# Altium footprint library Mini-Circuits.PcbLib: 16 footprints
Each footprint in its own frame and in the unit in brackets; x right, y up, seen from the top. Pads: shape width x height; smd on the part's side, far side on the other; paste and mask are expansions set on the pad; w line width, h text height; cw(c..) or ccw(c..) is an arc to the next point about the centre after c.
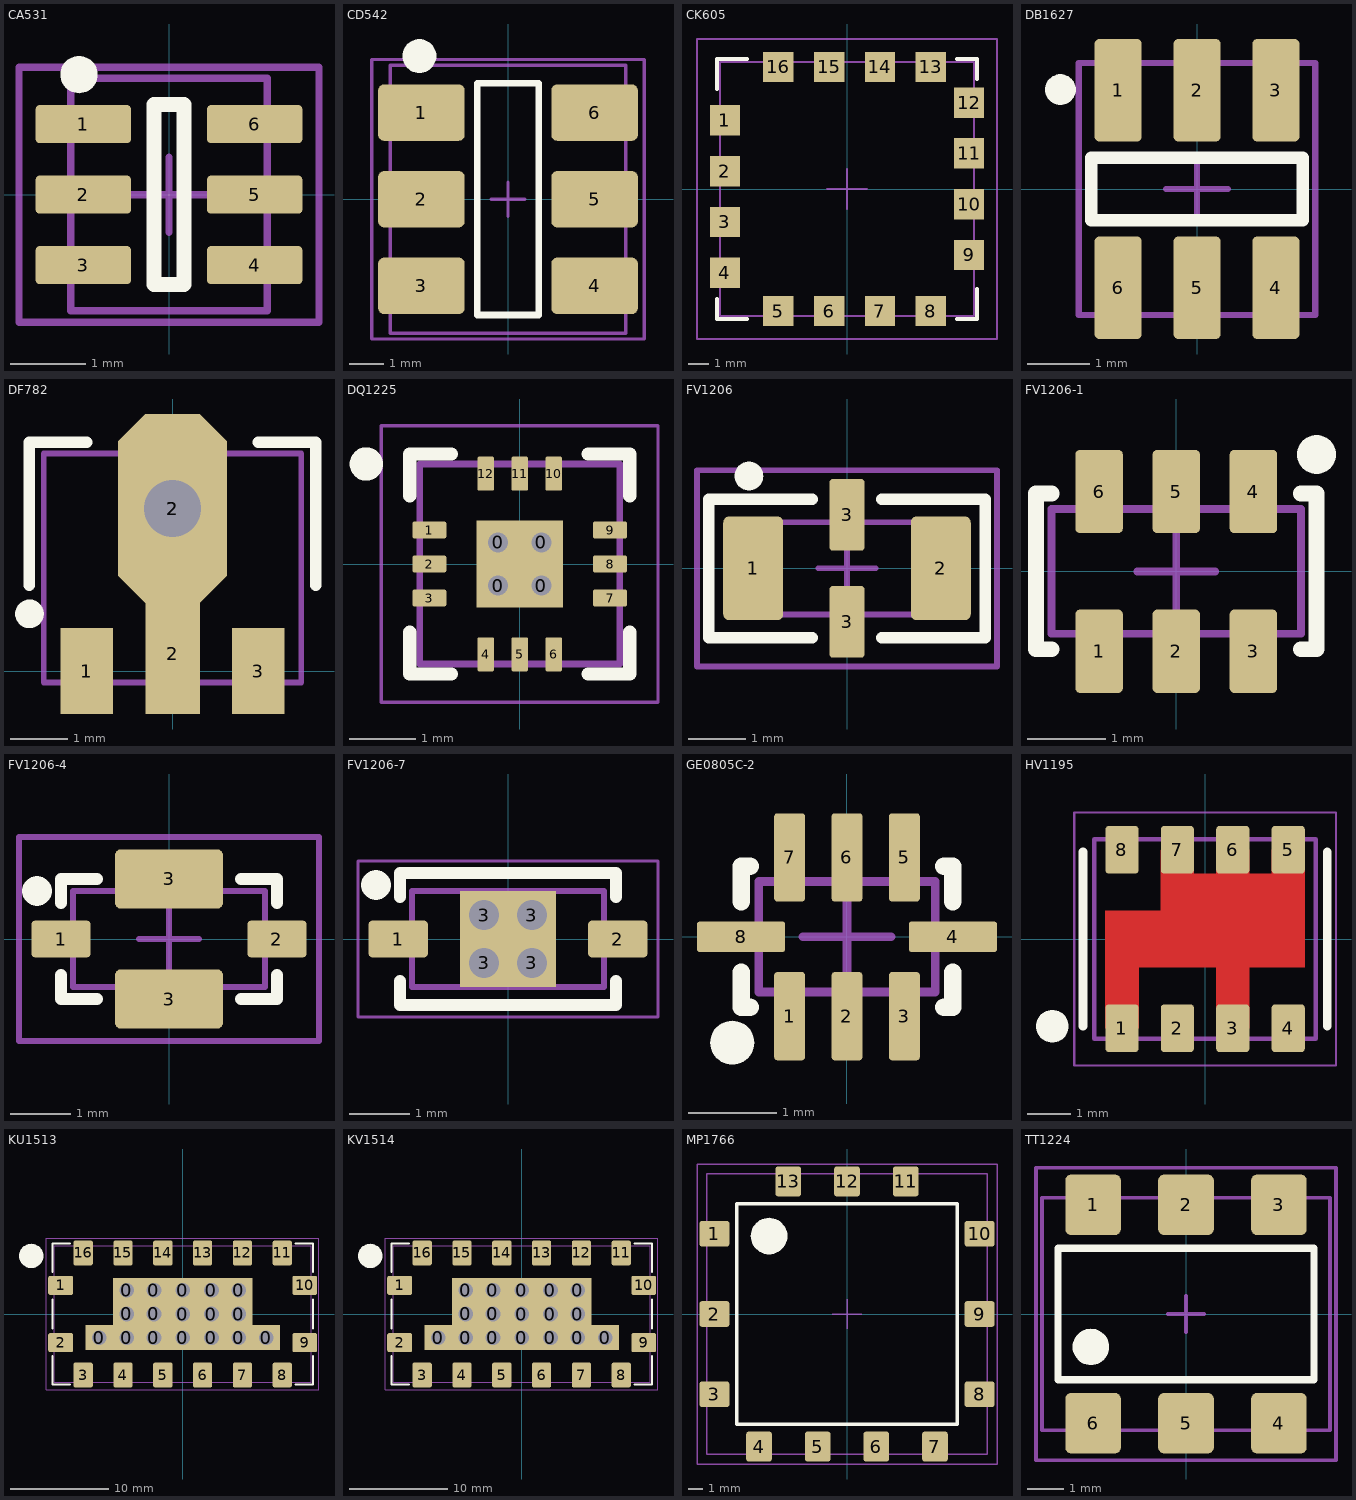
[diagram p0: the footprints below, top view; thin cyan lines are the x and y axes]

## CA531 [mil]
pads (7):
  rrect20% 50x20 smd: 1(-45,37) 2(-45,0) 3(-45,-37) 4(45,-37) 5(45,0) 6(45,37)
  round 19.68 on Top Overlay: ""(-47.24,62.99)
Top Overlay:
  lines w7.87: -7.87,-47.24 -7.87,47.24 7.87,47.24 7.87,-47.24 -7.87,-47.24
Mechanical 1:
  lines w3.94: -51.57,-61.02 -51.57,61.02 51.57,61.02 51.57,-61.02 -51.57,-61.02
Mechanical 15:
  lines w3.94: -19.68,0 19.68,0 ; 0,-19.68 0,19.68 ; -78.74,-66.93 78.74,-66.93 78.74,66.93 -78.74,66.93 -78.74,-66.93
3D body "Mini-Circuits_CA531.STEP": height 62.99, standoff 0, extent -51.57,-61.02 51.57,61.02

## CD542 [mm]
pads (7):
  rrect20% 2.54x1.65 smd: 1(-2.54,2.54) 2(-2.54,0) 3(-2.54,-2.54) 4(2.54,-2.54) 5(2.54,0) 6(2.54,2.54)
  round 1 on Top Overlay: ""(-2.6,4.2)
Top Overlay:
  lines w0.2: -0.9,-3.4 0.9,-3.4 0.9,3.4 -0.9,3.4 -0.9,-3.4
Mechanical 1:
  lines w0.1: -3.455,-3.935 3.455,-3.935 3.455,3.935 -3.455,3.935 -3.455,-3.935
Mechanical 15:
  lines w0.1: -0.5,0 0.5,0 ; 0,-0.5 0,0.5 ; -4,-4.1 4,-4.1 4,4.1 -4,4.1 -4,-4.1
3D body "Mini-Circuits_CD542.STEP": height 2.84, standoff 0, extent -3.455,-3.935 3.455,3.935

## CK605 [mm]
pads (16):
  rect 1.52x1.52 smd: 1(-6.1,3.43) 2(-6.1,0.89) 3(-6.1,-1.65) 4(-6.1,-4.19) 5(-3.43,-6.1) 6(-0.89,-6.1) 7(1.65,-6.1) 8(4.19,-6.1) 9(6.1,-3.3) 10(6.1,-0.76) 11(6.1,1.78) 12(6.1,4.32) 13(4.19,6.1) 14(1.65,6.1) 15(-0.89,6.1) 16(-3.43,6.1)
Top Overlay:
  lines w0.2: -6.5,-5.5 -6.5,-6.5 -5,-6.5 ; -6.5,5 -6.5,6.5 -5,6.5 ; 5.5,-6.5 6.5,-6.5 6.5,-5 ; 5.5,6.5 6.5,6.5 6.5,5.5
Mechanical 1:
  lines w0.1: -6.35,-6.35 -6.35,6.35 6.35,6.35 6.35,-6.35 -6.35,-6.35
Mechanical 15:
  lines w0.1: -1,0 1,0 ; 0,-1 0,1 ; -7.5,-7.5 -7.5,7.5 7.5,7.5 7.5,-7.5 -7.5,-7.5
3D body "Mini-Circuits_CK605.STEP": height 4.57, standoff 0, extent -6.35,-6.35 6.35,6.35

## DB1627 [mm]
pads (7):
  rrect20% 0.76x1.65 smd: 1(-1.27,1.59) 2(0,1.59) 3(1.27,1.59) 4(1.27,-1.59) 5(0,-1.59) 6(-1.27,-1.59)
  round 0.5 on Top Overlay: ""(-2.2,1.6)
Top Overlay:
  lines w0.2: -1.7,-0.5 -1.7,0.5 1.7,0.5 1.7,-0.5 -1.7,-0.5
Mechanical 1:
  lines w0.1: -1.905,-2.03 -1.905,2.03 1.905,2.03 1.905,-2.03 -1.905,-2.03
Mechanical 15:
  lines w0.1: -0.5,0 0.5,0 ; 0,-0.5 0,0.5

## DF782 [mil]
pads (5):
  rect 36x59 smd: 1(-59,0) 3(59,0)
  rect 37.5x82.68 smd: 2(0,11.84)
  oct 75x130 smd: 2(0,111.82)
  round 39.37 hole 39.37: 2(0,111.82)
Top Overlay:
  circle w9.84: c-98.43,39.37 r4.92
  lines w7.87: -98.43,59.06 -98.43,157.48 -59.06,157.48 ; 59.06,157.48 98.43,157.48 98.43,59.06
Mechanical 1:
  lines w3.94: -88.58,-7.87 -88.58,149.6 88.58,149.6 88.58,-7.87 -88.58,-7.87
3D body "SOT-89-3.step": height 59.84, standoff 0, extent -88.58,-7.87 88.58,149.6

## DQ1225 [mm] "QFN, 12-Leads, Body 3.00x3.00mm, Pitch 0.50mm, Thermal Pad 1.45x1.45mm, IPC Medium Density"
height 0.89
pads (16):
  rect 0.65x0.65 hole 0.3: 0(-0.325,-0.325) 0(-0.325,0.325) 0(0.325,-0.325) 0(0.325,0.325)
  rrect20% 0.51x0.25 smd: 1(-1.355,0.51) 2(-1.355,0) 3(-1.355,-0.51) 7(1.355,-0.51) 8(1.355,0) 9(1.355,0.51)
  rrect20% 0.25x0.51 smd: 4(-0.51,-1.355) 5(0,-1.355) 6(0.51,-1.355) 10(0.51,1.355) 11(0,1.355) 12(-0.51,1.355)
Top Overlay:
  circle w0.25: c-2.3,1.5 r0.125
  lines w0.2: -1.65,-1.025 -1.65,-1.65 -1.025,-1.65 ; -1.65,1.025 -1.65,1.65 -1.025,1.65 ; 1.025,-1.65 1.65,-1.65 1.65,-1.025 ; 1.025,1.65 1.65,1.65 1.65,1.025
Mechanical 13:
  lines w0.1: -1.5,-1.5 -1.5,1.5 1.5,1.5 1.5,-1.5 -1.5,-1.5
Mechanical 15:
  lines w0.05: -2.075,-2.075 -2.075,2.075 2.075,2.075 2.075,-2.075 -2.075,-2.075
  lines w0.1: -0.5,0 0.5,0 ; 0,-0.5 0,0.5
3D body "Mini-Circuits_DQ1225.STEP": height 0.35, standoff -0.01, extent -1.501,-1.501 1.501,1.501

## FV1206 [mm]
pads (5):
  rrect20% 1.04x1.8 smd: 1(-1.625,0) 2(1.625,0)
  rrect20% 0.61x1.245 smd: 3(0,-0.927) 3(0,0.927)
  round 0.5 on Top Overlay: ""(-1.7,1.6)
Top Overlay:
  lines w0.2: -0.6,-1.2 -2.4,-1.2 -2.4,1.2 -0.6,1.2 ; 0.6,-1.2 2.4,-1.2 2.4,1.2 0.6,1.2
Mechanical 1:
  lines w0.1: -1.6,-0.8 1.6,-0.8 1.6,0.8 -1.6,0.8 -1.6,-0.8
Mechanical 15:
  lines w0.1: -0.5,0 0.5,0 ; 0,-0.5 0,0.5 ; -2.6,-1.7 2.6,-1.7 2.6,1.7 -2.6,1.7 -2.6,-1.7
3D body "Filter_Mini-Circuits_FV1206.step": height 0.94, standoff 0, extent -1.6,-0.8 1.6,0.8

## FV1206-1 [mm]
pads (7):
  rrect20% 0.61x1.07 smd: 1(-0.99,-1.025) 2(0,-1.025) 3(0.99,-1.025) 4(0.99,1.025) 5(0,1.025) 6(-0.99,1.025)
  round 0.5 on Top Overlay: ""(1.8,1.5)
Top Overlay:
  lines w0.2: -1.6,-1 -1.8,-1 -1.8,1 -1.6,1 ; 1.6,-1 1.8,-1 1.8,1 1.6,1
Mechanical 1:
  lines w0.1: -1.6,-0.8 1.6,-0.8 1.6,0.8 -1.6,0.8 -1.6,-0.8
Mechanical 15:
  lines w0.1: -0.5,0 0.5,0 ; 0,-0.5 0,0.5
3D body "Filter_Mini-Circuits_FV1206-1.step": height 0.89, standoff 0, extent -1.6,-0.8 1.6,0.8

## FV1206-4 [mm]
pads (5):
  rrect20% 0.99x0.61 smd: 1(-1.8,0) 2(1.8,0)
  rrect20% 1.8x0.99 smd: 3(0,-1) 3(0,1)
  round 0.5 on Top Overlay: ""(-2.2,0.8)
Top Overlay:
  lines w0.2: -1.8,-0.6 -1.8,-1 -1.2,-1 ; -1.8,0.6 -1.8,1 -1.2,1 ; 1.2,-1 1.8,-1 1.8,-0.6 ; 1.2,1 1.8,1 1.8,0.6
Mechanical 1:
  lines w0.1: -1.6,-0.8 1.6,-0.8 1.6,0.8 -1.6,0.8 -1.6,-0.8
Mechanical 15:
  lines w0.1: -0.5,0 0.5,0 ; 0,-0.5 0,0.5 ; -2.5,-1.7 -2.5,1.7 2.5,1.7 2.5,-1.7 -2.5,-1.7
3D body "Filter_Mini-Circuits_FV1206-4.step": height 0.94, standoff 0, extent -1.6,-0.8 1.6,0.8

## FV1206-7 [mm]
pads (7):
  rrect20% 0.99x0.61 smd: 1(-1.83,0) 2(1.83,0)
  rect 0.8x0.8 hole 0.5: 3(-0.4,-0.4) 3(-0.4,0.4) 3(0.4,-0.4) 3(0.4,0.4)
  round 0.5 on Top Overlay: ""(-2.2,0.9)
Top Overlay:
  lines w0.2: -1.8,-0.7 -1.8,-1.1 1.8,-1.1 1.8,-0.7 ; -1.8,0.7 -1.8,1.1 1.8,1.1 1.8,0.7
Mechanical 1:
  lines w0.1: -1.6,-0.8 1.6,-0.8 1.6,0.8 -1.6,0.8 -1.6,-0.8
Mechanical 15:
  lines w0.05: -2.5,-1.3 2.5,-1.3 2.5,1.3 -2.5,1.3 -2.5,-1.3
  lines w0.1: -0.5,0 0.5,0 ; 0,-0.5 0,0.5
3D body "Filter_Mini-Circuits_FV1206-7.step": height 1.3, standoff 0, extent -1.6,-0.8 1.6,0.8

## GE0805C-2 [mm]
pads (9):
  rrect20% 0.35x1 smd: 1(-0.65,-0.9) 2(0,-0.9) 3(0.65,-0.9) 5(0.65,0.9) 6(0,0.9) 7(-0.65,0.9)
  rrect20% 1x0.35 smd: 4(1.2,0) 8(-1.2,0)
  round 0.5 on Top Overlay: ""(-1.3,-1.2)
Top Overlay:
  lines w0.2: -1.2,-0.4 -1.2,-0.8 -1.1,-0.8 ; -1.2,0.4 -1.2,0.8 -1.1,0.8 ; 1.1,-0.8 1.2,-0.8 1.2,-0.4 ; 1.1,0.8 1.2,0.8 1.2,0.4
Mechanical 1:
  lines w0.1: -1,-0.625 1,-0.625 1,0.625 -1,0.625 -1,-0.625
Mechanical 15:
  lines w0.1: -0.5,0 0.5,0 ; 0,-0.5 0,0.5
3D body "Filter_Mini-Circuits_GE0805C-2.STEP": height 0.95, standoff 0, extent -1,-0.625 1,0.625

## HV1195 [mm]
pads (9):
  rrect20% 0.76x1.09 smd mask+0.1: 1(-1.905,-2.045) 2(-0.635,-2.045) 3(0.635,-2.045) 4(1.905,-2.045) 5(1.905,2.045) 6(0.635,2.045) 7(-0.635,2.045) 8(-1.905,2.045)
  round 0.75 on Top Overlay: ""(-3.5,-2)
Top Layer:
  region: -1.525,-2.045 -1.525,-0.643 0.255,-0.643 0.255,-2.045 1.015,-2.045 1.015,-0.643 2.285,-0.643 2.285,2.045 1.525,2.045 1.525,1.5 1.015,1.5 1.015,2.045 0.255,2.045 0.255,1.5 -0.255,1.5 -0.255,2.045 -1.015,2.045 -1.015,0.643 -2.285,0.643 -2.285,-2.045
Top Overlay:
  lines w0.2: -2.8,-2 -2.8,2 ; 2.8,-2 2.8,2
Mechanical 1:
  lines w0.1: -2.54,-2.285 2.54,-2.285 2.54,2.285 -2.54,2.285 -2.54,-2.285
Mechanical 15:
  lines w0.05: -3,-2.9 3,-2.9 3,2.9 -3,2.9 -3,-2.9
  lines w0.1: -0.5,0 0.5,0 ; 0,-0.5 0,0.5

## KU1513 [mm]
pads (34):
  rect 2.79x2.54 hole 1.5: 0(-8.51,-2.41) 0(-5.72,-2.41) 0(-5.72,0) 0(-5.72,2.41) 0(-2.93,-2.41) 0(-2.93,0) 0(-2.93,2.41) 0(2.93,-2.41) 0(2.93,0) 0(2.93,2.41) 0(5.72,-2.41) 0(5.72,0) 0(5.72,2.41) 0(8.51,-2.41)
  rect 3.1x2.54 hole 1.5: 0(0,-2.41) 0(0,0) 0(0,2.41)
  rrect20% 2.54x1.96 smd: 1(-12.445,2.92) 2(-12.445,-2.92) 9(12.445,-2.92) 10(12.445,2.92)
  rrect20% 1.96x2.54 smd: 3(-10.15,-6.225) 4(-6.09,-6.225) 5(-2.03,-6.225) 6(2.03,-6.225) 7(6.09,-6.225) 8(10.15,-6.225) 11(10.15,6.225) 12(6.09,6.225) 13(2.03,6.225) 14(-2.03,6.225) 15(-6.09,6.225) 16(-10.15,6.225)
  round 2.5 on Top Overlay: ""(-15.445,5.92)
Top Overlay:
  lines w0.2: -13.3,-4.3 -13.3,-7.2 -11.5,-7.2 ; -13.3,-1.5 -13.3,1.5 ; -13.3,4.3 -13.3,7.2 -11.5,7.2 ; 11.5,-7.2 13.3,-7.2 13.3,-4.3 ; 11.5,7.2 13.3,7.2 13.3,4.3 ; 13.3,-1.5 13.3,1.5
Mechanical 1:
  lines w0.1: -13.12,-6.985 13.12,-6.985 13.12,6.985 -13.12,6.985 -13.12,-6.985
Mechanical 15:
  lines w0.1: -1,0 1,0 ; 0,-1 0,1 ; -13.9,-7.7 -13.9,7.7 13.9,7.7 13.9,-7.7 -13.9,-7.7

## KV1514 [mm]
pads (34):
  rect 2.79x2.54 hole 1.5: 0(-8.51,-2.41) 0(-5.72,-2.41) 0(-5.72,0) 0(-5.72,2.41) 0(-2.93,-2.41) 0(-2.93,0) 0(-2.93,2.41) 0(2.93,-2.41) 0(2.93,0) 0(2.93,2.41) 0(5.72,-2.41) 0(5.72,0) 0(5.72,2.41) 0(8.51,-2.41)
  rect 3.1x2.54 hole 1.5: 0(0,-2.41) 0(0,0) 0(0,2.41)
  rrect20% 2.54x1.96 smd: 1(-12.445,2.92) 2(-12.445,-2.92) 9(12.445,-2.92) 10(12.445,2.92)
  rrect20% 1.96x2.54 smd: 3(-10.15,-6.225) 4(-6.09,-6.225) 5(-2.03,-6.225) 6(2.03,-6.225) 7(6.09,-6.225) 8(10.15,-6.225) 11(10.15,6.225) 12(6.09,6.225) 13(2.03,6.225) 14(-2.03,6.225) 15(-6.09,6.225) 16(-10.15,6.225)
  round 2.5 on Top Overlay: ""(-15.445,5.92)
Top Overlay:
  lines w0.2: -13.3,-4.3 -13.3,-7.2 -11.5,-7.2 ; -13.3,-1.5 -13.3,1.5 ; -13.3,4.3 -13.3,7.2 -11.5,7.2 ; 11.5,-7.2 13.3,-7.2 13.3,-4.3 ; 11.5,7.2 13.3,7.2 13.3,4.3 ; 13.3,-1.5 13.3,1.5
Mechanical 1:
  lines w0.1: -13.12,-6.985 -13.12,6.985 13.12,6.985 13.12,-6.985 -13.12,-6.985
Mechanical 15:
  lines w0.1: -1,0 1,0 ; 0,-1 0,1 ; -13.9,-7.7 13.9,-7.7 13.9,7.7 -13.9,7.7 -13.9,-7.7

## MP1766 [mm]
pads (14):
  rrect20% 2.03x1.75 smd: 1(-9.015,5.461) 2(-9.015,0) 3(-9.015,-5.461) 8(9.015,-5.461) 9(9.015,0) 10(9.015,5.461)
  rrect20% 1.75x2.03 smd: 4(-5.982,-9.015) 5(-1.994,-9.015) 6(1.994,-9.015) 7(5.982,-9.015) 11(3.988,9.015) 12(0,9.015) 13(-3.988,9.015)
  round 2.5 on Top Overlay: ""(-5.3,5.3)
Top Overlay:
  lines w0.25: -7.5,-7.5 7.5,-7.5 7.5,7.5 -7.5,7.5 -7.5,-7.5
Mechanical 1:
  lines w0.1: -9.525,-9.525 9.525,-9.525 9.525,9.525 -9.525,9.525 -9.525,-9.525
Mechanical 15:
  lines w0.1: -1,0 1,0 ; 0,-1 0,1 ; -10.2,-10.2 10.2,-10.2 10.2,10.2 -10.2,10.2 -10.2,-10.2
3D body "Filter_Mini-Circuits_MP1766.STEP": height 5.33, standoff 0, extent -9.525,-9.525 9.525,9.525

## TT1224 [mm]
pads (7):
  rrect20% 1.52x1.65 smd: 1(-2.54,2.985) 2(0,2.985) 3(2.54,2.985) 4(2.54,-2.985) 5(0,-2.985) 6(-2.54,-2.985)
  round 1 on Top Overlay: ""(-2.6,-0.9)
Top Overlay:
  lines w0.2: -3.5,-1.8 3.5,-1.8 3.5,1.8 -3.5,1.8 -3.5,-1.8
Mechanical 1:
  lines w0.1: -3.935,-3.175 -3.935,3.175 3.935,3.175 3.935,-3.175 -3.935,-3.175
Mechanical 15:
  lines w0.1: -0.5,0 0.5,0 ; 0,-0.5 0,0.5 ; -4.1,-4 4.1,-4 4.1,4 -4.1,4 -4.1,-4
3D body "Mini-Circuits_TT1224.STEP": height 4.06, standoff 0, extent -3.935,-3.175 3.935,3.175